# Altium integrated library NSC DAC.IntLib: 136 symbols (part 2 of 4)
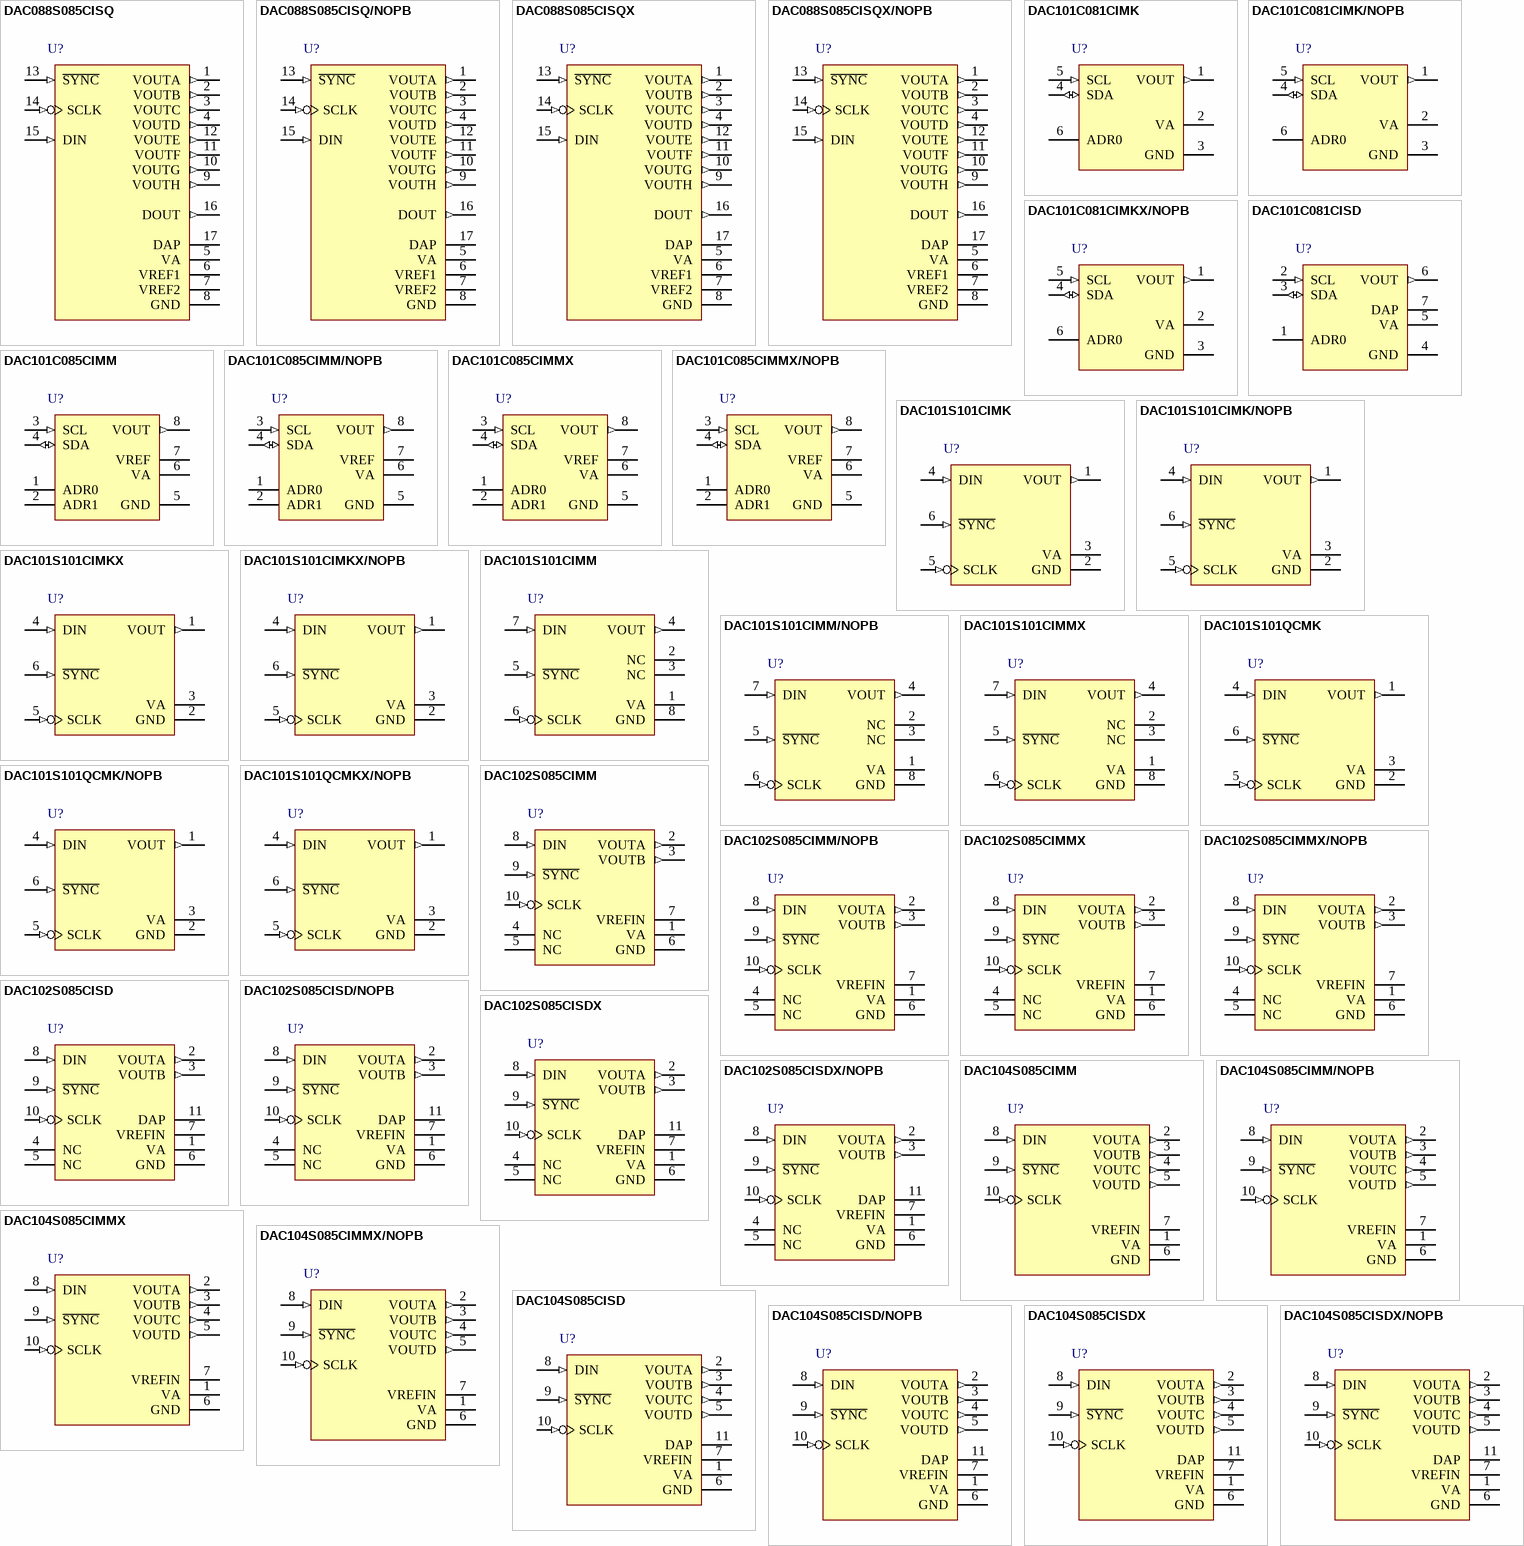
[diagram p4: symbols DAC088S085CISQ to DAC104S085CISDX/NOPB]

## DAC088S085CISQ
designator U?
8-Bit Micro Power OCTAL Digital-to-Analog Converter with Rail-to-Rail Outputs, 17-pin LLP; PartNumber: DAC088S085CISQ; Manufacturer: National Semiconductor; PackageTopMarking: NS*UZXYTT*088S085; PowerWise: Y; CompType: D/A Converter; Published: 4-Dec-2008; DatasheetVersion: Sep-2007; PackageVersion: revA, Oct-2003; PackageReference: SQA16A; Publisher: Altium Limited; PackageDescription: LLP, Plastic, Quad, 4 x 4 x 0.8mm Body, 16 Lead, 0.5mm Pitch, No Pullback; RoHS: N; PinCount: 17; ComponentLink1Description: DAC088S085 Datasheet; ComponentLink1URL: http://www.national.com/ds/DA/DAC088S085.pdf; ComponentLink2Description: DAC088S085 Web Page; ComponentLink2URL: http://www.national.com/pf/DA/DAC088S085.html; ComponentLink3Description: SQA16A Package Page; ComponentLink3URL: http://www.national.com/packaging/folders/sqa16a.html
footprint SQA16A (QFN, 16-Leads, Body 4x4mm, Pitch 0.5mm, NSC Recommended)
pins: 1 VOUTA (out), 2 VOUTB (out), 3 VOUTC (out), 4 VOUTD (out), 5 VA (power), 6 VREF1 (power), 7 VREF2 (power), 8 GND (power), 9 VOUTH (out), 10 VOUTG (out), 11 VOUTF (out), 12 VOUTE (out), 13 ~{SYNC} (in), 14 SCLK (in), 15 DIN (in), 16 DOUT (out), 17 DAP (power)

## DAC088S085CISQ/NOPB
designator U?
8-Bit Micro Power OCTAL Digital-to-Analog Converter with Rail-to-Rail Outputs, 16-pin LLP, Pb-Free; PartNumber: DAC088S085CISQ/NOPB; Manufacturer: National Semiconductor; PackageTopMarking: NS*UZXYTT*088S085; PowerWise: Y; CompType: D/A Converter; Published: 1-Mar-2010; DatasheetVersion: Sep-2007; PackageVersion: revA, Oct-2003; PackageReference: SQA16A; Publisher: Altium Limited; PackageDescription: LLP, Plastic, Quad, 4 x 4 x 0.8mm Body, 16 Lead, 0.5mm Pitch, No Pullback; Supplier 1: Digi-Key; Supplier Part Number 1: DAC088S085CISQTR-ND; Supplier 2: Digi-Key; Supplier Part Number 2: DAC088S085CISQCT-ND; Supplier 3: Digi-Key; Supplier Part Number 3: DAC088S085CISQDKR-ND; RoHS: Y; PinCount: 16; ComponentLink1Description: DAC088S085 Datasheet; ComponentLink1URL: http://www.national.com/ds/DA/DAC088S085.pdf; ComponentLink2Description: DAC088S085 Web Page; ComponentLink2URL: http://www.national.com/pf/DA/DAC088S085.html; ComponentLink3Description: SQA16A Package Page; ComponentLink3URL: http://www.national.com/packaging/folders/sqa16a.html
footprint SQA16A (QFN, 16-Leads, Body 4x4mm, Pitch 0.5mm, NSC Recommended)
pins: 1 VOUTA (out), 2 VOUTB (out), 3 VOUTC (out), 4 VOUTD (out), 5 VA (power), 6 VREF1 (power), 7 VREF2 (power), 8 GND (power), 9 VOUTH (out), 10 VOUTG (out), 11 VOUTF (out), 12 VOUTE (out), 13 ~{SYNC} (in), 14 SCLK (in), 15 DIN (in), 16 DOUT (out), 17 DAP (power)

## DAC088S085CISQX
designator U?
8-Bit Micro Power OCTAL Digital-to-Analog Converter with Rail-to-Rail Outputs, 16-pin LLP; PartNumber: DAC088S085CISQX; Manufacturer: National Semiconductor; PackageTopMarking: NS*UZXYTT*088S085; PowerWise: Y; CompType: D/A Converter; Published: 1-Mar-2010; DatasheetVersion: Sep-2007; PackageVersion: revA, Oct-2003; PackageReference: SQA16A; Publisher: Altium Limited; PackageDescription: LLP, Plastic, Quad, 4 x 4 x 0.8mm Body, 16 Lead, 0.5mm Pitch, No Pullback; RoHS: N; PinCount: 16; ComponentLink1Description: DAC088S085 Datasheet; ComponentLink1URL: http://www.national.com/ds/DA/DAC088S085.pdf; ComponentLink2Description: DAC088S085 Web Page; ComponentLink2URL: http://www.national.com/pf/DA/DAC088S085.html; ComponentLink3Description: SQA16A Package Page; ComponentLink3URL: http://www.national.com/packaging/folders/sqa16a.html
footprint SQA16A (QFN, 16-Leads, Body 4x4mm, Pitch 0.5mm, NSC Recommended)
pins: 1 VOUTA (out), 2 VOUTB (out), 3 VOUTC (out), 4 VOUTD (out), 5 VA (power), 6 VREF1 (power), 7 VREF2 (power), 8 GND (power), 9 VOUTH (out), 10 VOUTG (out), 11 VOUTF (out), 12 VOUTE (out), 13 ~{SYNC} (in), 14 SCLK (in), 15 DIN (in), 16 DOUT (out), 17 DAP (power)

## DAC088S085CISQX/NOPB
designator U?
8-Bit Micro Power OCTAL Digital-to-Analog Converter with Rail-to-Rail Outputs, 16-pin LLP, Pb-Free; PartNumber: DAC088S085CISQX/NOPB; Manufacturer: National Semiconductor; PackageTopMarking: NS*UZXYTT*088S085; PowerWise: Y; CompType: D/A Converter; Published: 1-Mar-2010; DatasheetVersion: Sep-2007; PackageVersion: revA, Oct-2003; PackageReference: SQA16A; Publisher: Altium Limited; PackageDescription: LLP, Plastic, Quad, 4 x 4 x 0.8mm Body, 16 Lead, 0.5mm Pitch, No Pullback; Supplier 1: Digi-Key; Supplier Part Number 1: DAC088S085CISQX-ND; RoHS: Y; PinCount: 16; ComponentLink1Description: DAC088S085 Datasheet; ComponentLink1URL: http://www.national.com/ds/DA/DAC088S085.pdf; ComponentLink2Description: DAC088S085 Web Page; ComponentLink2URL: http://www.national.com/pf/DA/DAC088S085.html; ComponentLink3Description: SQA16A Package Page; ComponentLink3URL: http://www.national.com/packaging/folders/sqa16a.html
footprint SQA16A (QFN, 16-Leads, Body 4x4mm, Pitch 0.5mm, NSC Recommended)
pins: 1 VOUTA (out), 2 VOUTB (out), 3 VOUTC (out), 4 VOUTD (out), 5 VA (power), 6 VREF1 (power), 7 VREF2 (power), 8 GND (power), 9 VOUTH (out), 10 VOUTG (out), 11 VOUTF (out), 12 VOUTE (out), 13 ~{SYNC} (in), 14 SCLK (in), 15 DIN (in), 16 DOUT (out), 17 DAP (power)

## DAC101C081CIMK
designator U?
10-Bit Micro Power Digital-to-Analog Converter with an I2C-Compatible Interface, 6-pin Tiny SOT23; PartNumber: DAC101C081CIMK; Manufacturer: National Semiconductor; PackageTopMarking: X85C*XTT; PowerWise: N; CompType: D/A Converter; Published: 4-Dec-2008; DatasheetVersion: Mar-2008; PackageVersion: revE, Nov-2008; PackageReference: MK06A; Publisher: Altium Limited; PackageDescription: Molded TSOT, 2.97 x 1.65 x 0.87mm Body, 6 Lead, 0.95mm Pitch; RoHS: Y; PinCount: 6; Code_JEDEC: MO-193-AA; Code_IPC: SOT26A-6; ComponentLink1Description: DAC101C081 Datasheet; ComponentLink1URL: http://www.national.com/ds/DA/DAC101C081.pdf; ComponentLink2Description: DAC101C081 Web Page; ComponentLink2URL: http://www.national.com/pf/DA/DAC101C081.html; ComponentLink3Description: MK06A Package Page; ComponentLink3URL: http://www.national.com/packaging/folders/mk06a.html
footprint MK06A_N (SOT23, 6-Leads, Body 3.0x1.7mm, Pitch 0.95mm, Lead Span 2.9mm, IPC Medium Density)
footprint MK06A_L (SOT23, 6-Leads, Body 3.0x1.7mm, Pitch 0.95mm, Lead Span 2.9mm, IPC High Density)
footprint MK06A_M (SOT23, 6-Leads, Body 3.0x1.7mm, Pitch 0.95mm, Lead Span 2.9mm, IPC Low Density)
pins: 1 VOUT (out), 2 VA (power), 3 GND (power), 4 SDA (io), 5 SCL (in), 6 ADR0 (hiz)

## DAC101C081CIMK/NOPB
designator U?
10-Bit Micro Power Digital-to-Analog Converter with an I2C-Compatible Interface, 6-pin Tiny SOT23, Pb-Free; PartNumber: DAC101C081CIMK/NOPB; Manufacturer: National Semiconductor; PackageTopMarking: X85C*XTT; PowerWise: N; CompType: D/A Converter; Published: 1-Mar-2010; DatasheetVersion: Mar-2008; PackageVersion: revE, Nov-2008; PackageReference: MK06A; Publisher: Altium Limited; PackageDescription: Molded TSOT, 2.97 x 1.65 x 0.87mm Body, 6 Lead, 0.95mm Pitch; Supplier 1: Digi-Key; Supplier Part Number 1: DAC101C081CIMKTR-ND; Supplier 2: Digi-Key; Supplier Part Number 2: DAC101C081CIMKCT-ND; Supplier 3: Digi-Key; Supplier Part Number 3: DAC101C081CIMKDKR-ND; Supplier 4: Farnell; Supplier Part Number 4: 1685398; RoHS: Y; PinCount: 6; Code_JEDEC: MO-193-AA; Code_IPC: SOT26A-6; ComponentLink1Description: DAC101C081 Datasheet; ComponentLink1URL: http://www.national.com/ds/DA/DAC101C081.pdf; ComponentLink2Description: DAC101C081 Web Page; ComponentLink2URL: http://www.national.com/pf/DA/DAC101C081.html; ComponentLink3Description: MK06A Package Page; ComponentLink3URL: http://www.national.com/packaging/folders/mk06a.html
footprint MK06A_N (SOT23, 6-Leads, Body 3.0x1.7mm, Pitch 0.95mm, Lead Span 2.9mm, IPC Medium Density)
footprint MK06A_L (SOT23, 6-Leads, Body 3.0x1.7mm, Pitch 0.95mm, Lead Span 2.9mm, IPC High Density)
footprint MK06A_M (SOT23, 6-Leads, Body 3.0x1.7mm, Pitch 0.95mm, Lead Span 2.9mm, IPC Low Density)
pins: 1 VOUT (out), 2 VA (power), 3 GND (power), 4 SDA (io), 5 SCL (in), 6 ADR0 (hiz)

## DAC101C081CIMKX/NOPB
designator U?
10-Bit Micro Power Digital-to-Analog Converter with an I2C-Compatible Interface, 6-pin Tiny SOT23, Pb-Free; PartNumber: DAC101C081CIMKX/NOPB; Manufacturer: National Semiconductor; PackageTopMarking: X85C*XTT; PowerWise: N; CompType: D/A Converter; Published: 1-Mar-2010; DatasheetVersion: Mar-2008; PackageVersion: revE, Nov-2008; PackageReference: MK06A; Publisher: Altium Limited; PackageDescription: Molded TSOT, 2.97 x 1.65 x 0.87mm Body, 6 Lead, 0.95mm Pitch; Supplier 1: Digi-Key; Supplier Part Number 1: DAC101C081CIMKX-ND; RoHS: Y; PinCount: 6; Code_JEDEC: MO-193-AA; Code_IPC: SOT26A-6; ComponentLink1Description: DAC101C081 Datasheet; ComponentLink1URL: http://www.national.com/ds/DA/DAC101C081.pdf; ComponentLink2Description: DAC101C081 Web Page; ComponentLink2URL: http://www.national.com/pf/DA/DAC101C081.html; ComponentLink3Description: MK06A Package Page; ComponentLink3URL: http://www.national.com/packaging/folders/mk06a.html
footprint MK06A_N (SOT23, 6-Leads, Body 3.0x1.7mm, Pitch 0.95mm, Lead Span 2.9mm, IPC Medium Density)
footprint MK06A_L (SOT23, 6-Leads, Body 3.0x1.7mm, Pitch 0.95mm, Lead Span 2.9mm, IPC High Density)
footprint MK06A_M (SOT23, 6-Leads, Body 3.0x1.7mm, Pitch 0.95mm, Lead Span 2.9mm, IPC Low Density)
pins: 1 VOUT (out), 2 VA (power), 3 GND (power), 4 SDA (io), 5 SCL (in), 6 ADR0 (hiz)

## DAC101C081CISD
designator U?
10-Bit Micro Power Digital-to-Analog Converter with an I2C-Compatible Interface, 7-pin LLP; PartNumber: DAC101C081CISD; Manufacturer: National Semiconductor; PackageTopMarking: XTT*X88; PowerWise: N; CompType: D/A Converter; Published: 4-Dec-2008; DatasheetVersion: Mar-2008; PackageVersion: revA, Nov-2003; PackageReference: SDB06A; Publisher: Altium Limited; PackageDescription: LLP, Plastic, Dual, 2.2 x 2.5 x 0.8mm Body, 6 Lead, 0.65mm Pitch, No Pullback; RoHS: N; PinCount: 7; ComponentLink1Description: DAC101C081 Datasheet; ComponentLink1URL: http://www.national.com/ds/DA/DAC101C081.pdf; ComponentLink2Description: DAC101C081 Web Page; ComponentLink2URL: http://www.national.com/pf/DA/DAC101C081.html; ComponentLink3Description: SDB06A Package Page; ComponentLink3URL: http://www.national.com/packaging/folders/sdb06a.html
footprint SDB06A (SON, 6-Leads, Body 2.2x2.5mm, Pitch 0.65mm, NSC Recommended (SC-70 Land))
pins: 1 ADR0 (hiz), 2 SCL (in), 3 SDA (io), 4 GND (power), 5 VA (power), 6 VOUT (out), 7 DAP (power)

## DAC101C085CIMM
designator U?
10-Bit Micro Power Digital-to-Analog Converter with an I2C-Compatible Interface and External Reference, 8-pin Mini SOIC; PartNumber: DAC101C085CIMM; Manufacturer: National Semiconductor; PackageTopMarking: ZXTT*X91C; PowerWise: N; CompType: D/A Converter; Published: 4-Dec-2008; DatasheetVersion: Mar-2008; PackageVersion: revF, Apr-2008; PackageReference: MUA08A; Publisher: Altium Limited; PackageDescription: MINI SOIC, .118 x .118 x .034in, 8 Lead, .0256in Pitch; RoHS: N; PinCount: 8; Code_JEDEC: MO-187-AA; ComponentLink1Description: DAC101C085 Datasheet; ComponentLink1URL: http://www.national.com/ds/DA/DAC101C085.pdf; ComponentLink2Description: DAC101C085 Web Page; ComponentLink2URL: http://www.national.com/pf/DA/DAC101C085.html; ComponentLink3Description: MUA08A Package Page; ComponentLink3URL: http://www.national.com/packaging/folders/mua08a.html
footprint MUA08A_N (TSOP, 8-Leads, Body 3x3mm, Pitch 0.65mm, IPC Medium Density)
footprint MUA08A_L (TSOP, 8-Leads, Body 3x3mm, Pitch 0.65mm, IPC High Density)
footprint MUA08A_M (TSOP, 8-Leads, Body 3x3mm, Pitch 0.65mm, IPC Low Density)
pins: 1 ADR0 (hiz), 2 ADR1 (hiz), 3 SCL (in), 4 SDA (io), 5 GND (power), 6 VA (power), 7 VREF (power), 8 VOUT (out)

## DAC101C085CIMM/NOPB
designator U?
10-Bit Micro Power Digital-to-Analog Converter with an I2C-Compatible Interface and External Reference, 8 pin MINI SOIC; PartNumber: DAC101C085CIMM/NOPB; Manufacturer: National Semiconductor; PackageTopMarking: ZXTT*X91C; PowerWise: N; CompType: D/A Converter; Published: 16-Nov-2010; DatasheetVersion: Mar-2008; PackageVersion: revF, Apr-2008; PackageReference: MUA08A; Publisher: Altium Limited; PackageDescription: MINI SOIC, .118 x .118 x .034in, 8 Lead, .0256in Pitch; Supplier 1: Digi-Key; Supplier Part Number 1: DAC101C085CIMMTR-ND; Supplier 2: Digi-Key; Supplier Part Number 2: DAC101C085CIMMCT-ND; Supplier 3: Digi-Key; Supplier Part Number 3: DAC101C085CIMMDKR-ND; RoHS: Y; PinCount: 8; Code_JEDEC: MO-187-AA; ComponentLink1Description: DAC101C085 Datasheet; ComponentLink1URL: http://www.national.com/ds/DA/DAC101C085.pdf; ComponentLink2Description: DAC101C085 Web Page; ComponentLink2URL: http://www.national.com/pf/DA/DAC101C085.html; ComponentLink3Description: MUA08A Package Page; ComponentLink3URL: http://www.national.com/packaging/folders/mua08a.html
footprint MUA08A_N (TSOP, 8-Leads, Body 3x3mm, Pitch 0.65mm, IPC Medium Density)
footprint MUA08A_L (TSOP, 8-Leads, Body 3x3mm, Pitch 0.65mm, IPC High Density)
footprint MUA08A_M (TSOP, 8-Leads, Body 3x3mm, Pitch 0.65mm, IPC Low Density)
pins: 1 ADR0 (hiz), 2 ADR1 (hiz), 3 SCL (in), 4 SDA (io), 5 GND (power), 6 VA (power), 7 VREF (power), 8 VOUT (out)

## DAC101C085CIMMX
designator U?
10-Bit Micro Power Digital-to-Analog Converter with an I2C-Compatible Interface and External Reference, 8-pin Mini SOIC; PartNumber: DAC101C085CIMMX; Manufacturer: National Semiconductor; PackageTopMarking: ZXTT*X91C; PowerWise: N; CompType: D/A Converter; Published: 1-Mar-2010; DatasheetVersion: Mar-2008; PackageVersion: revF, Apr-2008; PackageReference: MUA08A; Publisher: Altium Limited; PackageDescription: MINI SOIC, .118 x .118 x .034in, 8 Lead, .0256in Pitch; RoHS: N; PinCount: 8; Code_JEDEC: MO-187-AA; ComponentLink1Description: DAC101C085 Datasheet; ComponentLink1URL: http://www.national.com/ds/DA/DAC101C085.pdf; ComponentLink2Description: DAC101C085 Web Page; ComponentLink2URL: http://www.national.com/pf/DA/DAC101C085.html; ComponentLink3Description: MUA08A Package Page; ComponentLink3URL: http://www.national.com/packaging/folders/mua08a.html
footprint MUA08A_N (TSOP, 8-Leads, Body 3x3mm, Pitch 0.65mm, IPC Medium Density)
footprint MUA08A_L (TSOP, 8-Leads, Body 3x3mm, Pitch 0.65mm, IPC High Density)
footprint MUA08A_M (TSOP, 8-Leads, Body 3x3mm, Pitch 0.65mm, IPC Low Density)
pins: 1 ADR0 (hiz), 2 ADR1 (hiz), 3 SCL (in), 4 SDA (io), 5 GND (power), 6 VA (power), 7 VREF (power), 8 VOUT (out)

## DAC101C085CIMMX/NOPB
designator U?
10-Bit Micro Power Digital-to-Analog Converter with an I2C-Compatible Interface and External Reference, 8-pin Mini SOIC, Pb-Free; PartNumber: DAC101C085CIMMX/NOPB; Manufacturer: National Semiconductor; PackageTopMarking: ZXTT*X91C; PowerWise: N; CompType: D/A Converter; Published: 1-Mar-2010; DatasheetVersion: Mar-2008; PackageVersion: revF, Apr-2008; PackageReference: MUA08A; Publisher: Altium Limited; PackageDescription: MINI SOIC, .118 x .118 x .034in, 8 Lead, .0256in Pitch; Supplier 1: Digi-Key; Supplier Part Number 1: DAC101C085CIMMX-ND; RoHS: Y; PinCount: 8; Code_JEDEC: MO-187-AA; ComponentLink1Description: DAC101C085 Datasheet; ComponentLink1URL: http://www.national.com/ds/DA/DAC101C085.pdf; ComponentLink2Description: DAC101C085 Web Page; ComponentLink2URL: http://www.national.com/pf/DA/DAC101C085.html; ComponentLink3Description: MUA08A Package Page; ComponentLink3URL: http://www.national.com/packaging/folders/mua08a.html
footprint MUA08A_N (TSOP, 8-Leads, Body 3x3mm, Pitch 0.65mm, IPC Medium Density)
footprint MUA08A_L (TSOP, 8-Leads, Body 3x3mm, Pitch 0.65mm, IPC High Density)
footprint MUA08A_M (TSOP, 8-Leads, Body 3x3mm, Pitch 0.65mm, IPC Low Density)
pins: 1 ADR0 (hiz), 2 ADR1 (hiz), 3 SCL (in), 4 SDA (io), 5 GND (power), 6 VA (power), 7 VREF (power), 8 VOUT (out)

## DAC101S101CIMK
designator U?
10-Bit Micro Power Digital-to-Analog Converter with Rail-to-Rail Output, 6-pin Tiny SOT23; PartNumber: DAC101S101CIMK; Manufacturer: National Semiconductor; PackageTopMarking: X63C*XTT; PowerWise: Y; CompType: D/A Converter; Published: 4-Dec-2008; LatestRevisionDate: 23-Feb-2010; LatestRevisionNote: Datasheet updated to version Oct-2009; DatasheetVersion: Oct-2009; PackageVersion: revE, Nov-2008; PackageReference: MK06A; Publisher: Altium Limited; PackageDescription: Molded TSOT, 2.97 x 1.65 x 0.87mm Body, 6 Lead, 0.95mm Pitch; Supplier 1: Farnell; Supplier Part Number 1: 1101196; RoHS: N; PinCount: 6; Code_JEDEC: MO-193-AA; Code_IPC: SOT26A-6; ComponentLink1Description: DAC101S101 Datasheet; ComponentLink1URL: http://www.national.com/ds/DA/DAC101S101.pdf; ComponentLink2Description: DAC101S101 Web Page; ComponentLink2URL: http://www.national.com/pf/DA/DAC101S101.html; ComponentLink3Description: MK06A Package Page; ComponentLink3URL: http://www.national.com/packaging/folders/mk06a.html
footprint MK06A_N (SOT23, 6-Leads, Body 3.0x1.7mm, Pitch 0.95mm, Lead Span 2.9mm, IPC Medium Density)
footprint MK06A_L (SOT23, 6-Leads, Body 3.0x1.7mm, Pitch 0.95mm, Lead Span 2.9mm, IPC High Density)
footprint MK06A_M (SOT23, 6-Leads, Body 3.0x1.7mm, Pitch 0.95mm, Lead Span 2.9mm, IPC Low Density)
pins: 1 VOUT (out), 2 GND (power), 3 VA (power), 4 DIN (in), 5 SCLK (in), 6 ~{SYNC} (in)

## DAC101S101CIMK/NOPB
designator U?
10-Bit Micro Power, RRO Digital-to-Analog Converter, 6-pin Tiny SOT23, Pb-Free; PartNumber: DAC101S101CIMK/NOPB; Manufacturer: National Semiconductor; PackageTopMarking: X63C*XTT; PowerWise: Y; CompType: D/A Converter; Published: 1-Mar-2010; LatestRevisionDate: 23-Feb-2010; LatestRevisionNote: Datasheet updated to version Oct-2009; DatasheetVersion: Oct-2009; PackageVersion: revE, Nov-2008; PackageReference: MK06A; Publisher: Altium Limited; PackageDescription: Molded TSOT, 2.97 x 1.65 x 0.87mm Body, 6 Lead, 0.95mm Pitch; Supplier 1: Digi-Key; Supplier Part Number 1: DAC101S101CIMKTR-ND; Supplier 2: Digi-Key; Supplier Part Number 2: DAC101S101CIMKCT-ND; Supplier 3: Digi-Key; Supplier Part Number 3: DAC101S101CIMKDKR-ND; Supplier 4: Farnell; Supplier Part Number 4: 1559747; RoHS: Y; PinCount: 6; Code_JEDEC: MO-193-AA; Code_IPC: SOT26A-6; ComponentLink1Description: DAC101S101 Datasheet; ComponentLink1URL: http://www.national.com/ds/DA/DAC101S101.pdf; ComponentLink2Description: DAC101S101 Web Page; ComponentLink2URL: http://www.national.com/pf/DA/DAC101S101.html; ComponentLink3Description: MK06A Package Page; ComponentLink3URL: http://www.national.com/packaging/folders/mk06a.html
footprint MK06A_N (SOT23, 6-Leads, Body 3.0x1.7mm, Pitch 0.95mm, Lead Span 2.9mm, IPC Medium Density)
footprint MK06A_L (SOT23, 6-Leads, Body 3.0x1.7mm, Pitch 0.95mm, Lead Span 2.9mm, IPC High Density)
footprint MK06A_M (SOT23, 6-Leads, Body 3.0x1.7mm, Pitch 0.95mm, Lead Span 2.9mm, IPC Low Density)
pins: 1 VOUT (out), 2 GND (power), 3 VA (power), 4 DIN (in), 5 SCLK (in), 6 ~{SYNC} (in)

## DAC101S101CIMKX
designator U?
10-Bit Micro Power, RRO Digital-to-Analog Converter, 6-pin Tiny SOT23; PartNumber: DAC101S101CIMKX; Manufacturer: National Semiconductor; PackageTopMarking: X63C*XTT; PowerWise: Y; CompType: D/A Converter; Published: 1-Mar-2010; LatestRevisionDate: 23-Feb-2010; LatestRevisionNote: Datasheet updated to version Oct-2009; DatasheetVersion: Oct-2009; PackageVersion: revE, Nov-2008; PackageReference: MK06A; Publisher: Altium Limited; PackageDescription: Molded TSOT, 2.97 x 1.65 x 0.87mm Body, 6 Lead, 0.95mm Pitch; RoHS: N; PinCount: 6; Code_JEDEC: MO-193-AA; Code_IPC: SOT26A-6; ComponentLink1Description: DAC101S101 Datasheet; ComponentLink1URL: http://www.national.com/ds/DA/DAC101S101.pdf; ComponentLink2Description: DAC101S101 Web Page; ComponentLink2URL: http://www.national.com/pf/DA/DAC101S101.html; ComponentLink3Description: MK06A Package Page; ComponentLink3URL: http://www.national.com/packaging/folders/mk06a.html
footprint MK06A_N (SOT23, 6-Leads, Body 3.0x1.7mm, Pitch 0.95mm, Lead Span 2.9mm, IPC Medium Density)
footprint MK06A_L (SOT23, 6-Leads, Body 3.0x1.7mm, Pitch 0.95mm, Lead Span 2.9mm, IPC High Density)
footprint MK06A_M (SOT23, 6-Leads, Body 3.0x1.7mm, Pitch 0.95mm, Lead Span 2.9mm, IPC Low Density)
pins: 1 VOUT (out), 2 GND (power), 3 VA (power), 4 DIN (in), 5 SCLK (in), 6 ~{SYNC} (in)

## DAC101S101CIMKX/NOPB
designator U?
10-Bit Micro Power, RRO Digital-to-Analog Converter, 6-pin Tiny SOT23, Pb-Free; PartNumber: DAC101S101CIMKX/NOPB; Manufacturer: National Semiconductor; PackageTopMarking: X63C*XTT; PowerWise: Y; CompType: D/A Converter; Published: 1-Mar-2010; LatestRevisionDate: 23-Feb-2010; LatestRevisionNote: Datasheet updated to version Oct-2009; DatasheetVersion: Oct-2009; PackageVersion: revE, Nov-2008; PackageReference: MK06A; Publisher: Altium Limited; PackageDescription: Molded TSOT, 2.97 x 1.65 x 0.87mm Body, 6 Lead, 0.95mm Pitch; Supplier 1: Digi-Key; Supplier Part Number 1: DAC101S101CIMKX-ND; RoHS: Y; PinCount: 6; Code_JEDEC: MO-193-AA; Code_IPC: SOT26A-6; ComponentLink1Description: DAC101S101 Datasheet; ComponentLink1URL: http://www.national.com/ds/DA/DAC101S101.pdf; ComponentLink2Description: DAC101S101 Web Page; ComponentLink2URL: http://www.national.com/pf/DA/DAC101S101.html; ComponentLink3Description: MK06A Package Page; ComponentLink3URL: http://www.national.com/packaging/folders/mk06a.html
footprint MK06A_N (SOT23, 6-Leads, Body 3.0x1.7mm, Pitch 0.95mm, Lead Span 2.9mm, IPC Medium Density)
footprint MK06A_L (SOT23, 6-Leads, Body 3.0x1.7mm, Pitch 0.95mm, Lead Span 2.9mm, IPC High Density)
footprint MK06A_M (SOT23, 6-Leads, Body 3.0x1.7mm, Pitch 0.95mm, Lead Span 2.9mm, IPC Low Density)
pins: 1 VOUT (out), 2 GND (power), 3 VA (power), 4 DIN (in), 5 SCLK (in), 6 ~{SYNC} (in)

## DAC101S101CIMM
designator U?
10-Bit Micro Power Digital-to-Analog Converter with Rail-to-Rail Output, 8-pin Mini SOIC; PartNumber: DAC101S101CIMM; Manufacturer: National Semiconductor; PackageTopMarking: ZXTT*X62C; PowerWise: Y; CompType: D/A Converter; Published: 4-Dec-2008; LatestRevisionDate: 23-Feb-2010; LatestRevisionNote: Datasheet updated to version Oct-2009; DatasheetVersion: Oct-2009; PackageVersion: revF, Apr-2008; PackageReference: MUA08A; Publisher: Altium Limited; PackageDescription: MINI SOIC, .118 x .118 x .034in, 8 Lead, .0256in Pitch; Supplier 1: Farnell; Supplier Part Number 1: 1101197; RoHS: N; PinCount: 8; Code_JEDEC: MO-187-AA; ComponentLink1Description: DAC101S101 Datasheet; ComponentLink1URL: http://www.national.com/ds/DA/DAC101S101.pdf; ComponentLink2Description: DAC101S101 Web Page; ComponentLink2URL: http://www.national.com/pf/DA/DAC101S101.html; ComponentLink3Description: MUA08A Package Page; ComponentLink3URL: http://www.national.com/packaging/folders/mua08a.html
footprint MUA08A_N (TSOP, 8-Leads, Body 3x3mm, Pitch 0.65mm, IPC Medium Density)
footprint MUA08A_L (TSOP, 8-Leads, Body 3x3mm, Pitch 0.65mm, IPC High Density)
footprint MUA08A_M (TSOP, 8-Leads, Body 3x3mm, Pitch 0.65mm, IPC Low Density)
pins: 1 VA (power), 2 NC, 3 NC, 4 VOUT (out), 5 ~{SYNC} (in), 6 SCLK (in), 7 DIN (in), 8 GND (power)

## DAC101S101CIMM/NOPB
designator U?
10-Bit Micro Power, RRO Digital-to-Analog Converter, 8-pin Mini SOIC, Pb-Free; PartNumber: DAC101S101CIMM/NOPB; Manufacturer: National Semiconductor; PackageTopMarking: ZXTT*X62C; PowerWise: Y; CompType: D/A Converter; Published: 1-Mar-2010; LatestRevisionDate: 23-Feb-2010; LatestRevisionNote: Datasheet updated to version Oct-2009; DatasheetVersion: Oct-2009; PackageVersion: revF, Apr-2008; PackageReference: MUA08A; Publisher: Altium Limited; PackageDescription: MINI SOIC, .118 x .118 x .034in, 8 Lead, .0256in Pitch; Supplier 1: Digi-Key; Supplier Part Number 1: DAC101S101CIMMTR-ND; Supplier 2: Digi-Key; Supplier Part Number 2: DAC101S101CIMMCT-ND; Supplier 3: Digi-Key; Supplier Part Number 3: DAC101S101CIMMDKR-ND; RoHS: Y; PinCount: 8; Code_JEDEC: MO-187-AA; ComponentLink1Description: DAC101S101 Datasheet; ComponentLink1URL: http://www.national.com/ds/DA/DAC101S101.pdf; ComponentLink2Description: DAC101S101 Web Page; ComponentLink2URL: http://www.national.com/pf/DA/DAC101S101.html; ComponentLink3Description: MUA08A Package Page; ComponentLink3URL: http://www.national.com/packaging/folders/mua08a.html
footprint MUA08A_N (TSOP, 8-Leads, Body 3x3mm, Pitch 0.65mm, IPC Medium Density)
footprint MUA08A_L (TSOP, 8-Leads, Body 3x3mm, Pitch 0.65mm, IPC High Density)
footprint MUA08A_M (TSOP, 8-Leads, Body 3x3mm, Pitch 0.65mm, IPC Low Density)
pins: 1 VA (power), 2 NC, 3 NC, 4 VOUT (out), 5 ~{SYNC} (in), 6 SCLK (in), 7 DIN (in), 8 GND (power)

## DAC101S101CIMMX
designator U?
10-Bit Micro Power, RRO Digital-to-Analog Converter, 8-pin Mini SOIC; PartNumber: DAC101S101CIMMX; Manufacturer: National Semiconductor; PackageTopMarking: ZXTT*X62C; PowerWise: Y; CompType: D/A Converter; Published: 1-Mar-2010; LatestRevisionDate: 23-Feb-2010; LatestRevisionNote: Datasheet updated to version Oct-2009; DatasheetVersion: Oct-2009; PackageVersion: revF, Apr-2008; PackageReference: MUA08A; Publisher: Altium Limited; PackageDescription: MINI SOIC, .118 x .118 x .034in, 8 Lead, .0256in Pitch; RoHS: N; PinCount: 8; Code_JEDEC: MO-187-AA; ComponentLink1Description: DAC101S101 Datasheet; ComponentLink1URL: http://www.national.com/ds/DA/DAC101S101.pdf; ComponentLink2Description: DAC101S101 Web Page; ComponentLink2URL: http://www.national.com/pf/DA/DAC101S101.html; ComponentLink3Description: MUA08A Package Page; ComponentLink3URL: http://www.national.com/packaging/folders/mua08a.html
footprint MUA08A_N (TSOP, 8-Leads, Body 3x3mm, Pitch 0.65mm, IPC Medium Density)
footprint MUA08A_L (TSOP, 8-Leads, Body 3x3mm, Pitch 0.65mm, IPC High Density)
footprint MUA08A_M (TSOP, 8-Leads, Body 3x3mm, Pitch 0.65mm, IPC Low Density)
pins: 1 VA (power), 2 NC, 3 NC, 4 VOUT (out), 5 ~{SYNC} (in), 6 SCLK (in), 7 DIN (in), 8 GND (power)

## DAC101S101QCMK
designator U?
10-Bit Micro Power, RRO Digital-to-Analog Converter, 6-pin Tiny SOT23; PartNumber: DAC101S101QCMK; Manufacturer: National Semiconductor; PackageTopMarking: X63Q*XTT; PowerWise: N; CompType: D/A Converter; Published: 4-Dec-2008; LatestRevisionDate: 23-Feb-2010; LatestRevisionNote: Datasheet updated to version Oct-2009; DatasheetVersion: Oct-2009; PackageVersion: revE, Nov-2008; PackageReference: MK06A; Publisher: Altium Limited; PackageDescription: Molded TSOT, 2.97 x 1.65 x 0.87mm Body, 6 Lead, 0.95mm Pitch; RoHS: N; PinCount: 6; Code_JEDEC: MO-193-AA; Code_IPC: SOT26A-6; ComponentLink1Description: DAC101S101Q Datasheet; ComponentLink1URL: http://www.national.com/ds/DA/DAC101S101.pdf; ComponentLink2Description: DAC101S101Q Web Page; ComponentLink2URL: http://www.national.com/pf/DA/DAC101S101Q.html; ComponentLink3Description: MK06A Package Page; ComponentLink3URL: http://www.national.com/packaging/folders/mk06a.html
footprint MK06A_N (SOT23, 6-Leads, Body 3.0x1.7mm, Pitch 0.95mm, Lead Span 2.9mm, IPC Medium Density)
footprint MK06A_L (SOT23, 6-Leads, Body 3.0x1.7mm, Pitch 0.95mm, Lead Span 2.9mm, IPC High Density)
footprint MK06A_M (SOT23, 6-Leads, Body 3.0x1.7mm, Pitch 0.95mm, Lead Span 2.9mm, IPC Low Density)
pins: 1 VOUT (out), 2 GND (power), 3 VA (power), 4 DIN (in), 5 SCLK (in), 6 ~{SYNC} (in)

## DAC101S101QCMK/NOPB
designator U?
10-Bit Micro Power, RRO Digital-to-Analog Converter, 6-pin Tiny SOT23, Pb-Free; PartNumber: DAC101S101QCMK/NOPB; Manufacturer: National Semiconductor; PackageTopMarking: X63Q*XTT; PowerWise: Y; CompType: D/A Converter; Published: 1-Mar-2010; LatestRevisionDate: 23-Feb-2010; LatestRevisionNote: Datasheet updated to version Oct-2009; DatasheetVersion: Oct-2009; PackageVersion: revE, Nov-2008; PackageReference: MK06A; Publisher: Altium Limited; PackageDescription: Molded TSOT, 2.97 x 1.65 x 0.87mm Body, 6 Lead, 0.95mm Pitch; Supplier 1: Digi-Key; Supplier Part Number 1: DAC101S101QCMKTR-ND; Supplier 2: Digi-Key; Supplier Part Number 2: DAC101S101QCMKCT-ND; Supplier 3: Digi-Key; Supplier Part Number 3: DAC101S101QCMKDKR-ND; RoHS: Y; PinCount: 6; Code_JEDEC: MO-193-AA; Code_IPC: SOT26A-6; ComponentLink1Description: DAC101S101 Datasheet; ComponentLink1URL: http://www.national.com/ds/DA/DAC101S101.pdf; ComponentLink2Description: DAC101S101 Web Page; ComponentLink2URL: http://www.national.com/pf/DA/DAC101S101.html; ComponentLink3Description: MK06A Package Page; ComponentLink3URL: http://www.national.com/packaging/folders/mk06a.html
footprint MK06A_N (SOT23, 6-Leads, Body 3.0x1.7mm, Pitch 0.95mm, Lead Span 2.9mm, IPC Medium Density)
footprint MK06A_L (SOT23, 6-Leads, Body 3.0x1.7mm, Pitch 0.95mm, Lead Span 2.9mm, IPC High Density)
footprint MK06A_M (SOT23, 6-Leads, Body 3.0x1.7mm, Pitch 0.95mm, Lead Span 2.9mm, IPC Low Density)
pins: 1 VOUT (out), 2 GND (power), 3 VA (power), 4 DIN (in), 5 SCLK (in), 6 ~{SYNC} (in)

## DAC101S101QCMKX/NOPB
designator U?
10-Bit Micro Power, RRO Digital-to-Analog Converter, 6-pin Tiny SOT23, Pb-Free; PartNumber: DAC101S101QCMKX/NOPB; Manufacturer: National Semiconductor; PackageTopMarking: X63Q*XTT; PowerWise: Y; CompType: D/A Converter; Published: 1-Mar-2010; LatestRevisionDate: 23-Feb-2010; LatestRevisionNote: Datasheet updated to version Oct-2009; DatasheetVersion: Oct-2009; PackageVersion: revE, Nov-2008; PackageReference: MK06A; Publisher: Altium Limited; PackageDescription: Molded TSOT, 2.97 x 1.65 x 0.87mm Body, 6 Lead, 0.95mm Pitch; Supplier 1: Digi-Key; Supplier Part Number 1: DAC101S101QCMKX-ND; RoHS: Y; PinCount: 6; Code_JEDEC: MO-193-AA; Code_IPC: SOT26A-6; ComponentLink1Description: DAC101S101 Datasheet; ComponentLink1URL: http://www.national.com/ds/DA/DAC101S101.pdf; ComponentLink2Description: DAC101S101 Web Page; ComponentLink2URL: http://www.national.com/pf/DA/DAC101S101.html; ComponentLink3Description: MK06A Package Page; ComponentLink3URL: http://www.national.com/packaging/folders/mk06a.html
footprint MK06A_N (SOT23, 6-Leads, Body 3.0x1.7mm, Pitch 0.95mm, Lead Span 2.9mm, IPC Medium Density)
footprint MK06A_L (SOT23, 6-Leads, Body 3.0x1.7mm, Pitch 0.95mm, Lead Span 2.9mm, IPC High Density)
footprint MK06A_M (SOT23, 6-Leads, Body 3.0x1.7mm, Pitch 0.95mm, Lead Span 2.9mm, IPC Low Density)
pins: 1 VOUT (out), 2 GND (power), 3 VA (power), 4 DIN (in), 5 SCLK (in), 6 ~{SYNC} (in)

## DAC102S085CIMM
designator U?
10-Bit Micro Power DUAL Digital-to-Analog Converter with Rail-to-Rail Output, 10-pin MSOP; PartNumber: DAC102S085CIMM; Manufacturer: National Semiconductor; PackageTopMarking: ZXTT*X74C; PowerWise: Y; CompType: D/A Converter; Published: 4-Dec-2008; DatasheetVersion: Nov-2008; PackageVersion: revB, Jul-2003; PackageReference: MUB10A; Publisher: Altium Limited; PackageDescription: Mini-SO, Molded, .118 x .118 x .034in Body, 10 Lead, .0197in Pitch; Supplier 1: Farnell; Supplier Part Number 1: 1312537; RoHS: N; PinCount: 10; Code_JEDEC: MO-187-BA; ComponentLink1Description: DAC102S085 Datasheet; ComponentLink1URL: http://www.national.com/ds/DA/DAC102S085.pdf; ComponentLink2Description: DAC102S085 Web Page; ComponentLink2URL: http://www.national.com/pf/DA/DAC102S085.html; ComponentLink3Description: MUB10A Package Page; ComponentLink3URL: http://www.national.com/packaging/folders/mub10a.html
footprint MUB10A_N (TSSOP, 10-Leads, Body 3x3mm, Pitch 0.5mm, IPC Medium Density)
footprint MUB10A_L (TSSOP, 10-Leads, Body 3x3mm, Pitch 0.5mm, IPC High Density)
footprint MUB10A_M (TSSOP, 10-Leads, Body 3x3mm, Pitch 0.5mm, IPC Low Density)
pins: 1 VA (power), 2 VOUTA (out), 3 VOUTB (out), 4 NC, 5 NC, 6 GND (power), 7 VREFIN (power), 8 DIN (in), 9 ~{SYNC} (in), 10 SCLK (in)

## DAC102S085CIMM/NOPB
designator U?
10-Bit Micro Power DUAL Digital-to-Analog Converter with Rail-to-Rail Output, 10-pin Mini SOIC, Pb-Free; PartNumber: DAC102S085CIMM/NOPB; Manufacturer: National Semiconductor; PackageTopMarking: ZXTT*X74C; PowerWise: Y; CompType: D/A Converter; Published: 1-Mar-2010; DatasheetVersion: Nov-2008; PackageVersion: revB, Jul-2003; PackageReference: MUB10A; Publisher: Altium Limited; PackageDescription: Mini-SO, Molded, .118 x .118 x .034in Body, 10 Lead, .0197in Pitch; Supplier 1: Digi-Key; Supplier Part Number 1: DAC102S085CIMMTR-ND; Supplier 2: Digi-Key; Supplier Part Number 2: DAC102S085CIMMCT-ND; Supplier 3: Digi-Key; Supplier Part Number 3: DAC102S085CIMMDKR-ND; Supplier 4: Farnell; Supplier Part Number 4: 1559241; RoHS: Y; PinCount: 10; Code_JEDEC: MO-187-BA; ComponentLink1Description: DAC102S085 Datasheet; ComponentLink1URL: http://www.national.com/ds/DA/DAC102S085.pdf; ComponentLink2Description: DAC102S085 Web Page; ComponentLink2URL: http://www.national.com/pf/DA/DAC102S085.html; ComponentLink3Description: MUB10A Package Page; ComponentLink3URL: http://www.national.com/packaging/folders/mub10a.html
footprint MUB10A_N (TSSOP, 10-Leads, Body 3x3mm, Pitch 0.5mm, IPC Medium Density)
footprint MUB10A_L (TSSOP, 10-Leads, Body 3x3mm, Pitch 0.5mm, IPC High Density)
footprint MUB10A_M (TSSOP, 10-Leads, Body 3x3mm, Pitch 0.5mm, IPC Low Density)
pins: 1 VA (power), 2 VOUTA (out), 3 VOUTB (out), 4 NC, 5 NC, 6 GND (power), 7 VREFIN (power), 8 DIN (in), 9 ~{SYNC} (in), 10 SCLK (in)

## DAC102S085CIMMX
designator U?
10-Bit Micro Power DUAL Digital-to-Analog Converter with Rail-to-Rail Output, 10-pin Mini SOIC; PartNumber: DAC102S085CIMMX; Manufacturer: National Semiconductor; PackageTopMarking: ZXTT*X74C; PowerWise: Y; CompType: D/A Converter; Published: 1-Mar-2010; DatasheetVersion: Nov-2008; PackageVersion: revB, Jul-2003; PackageReference: MUB10A; Publisher: Altium Limited; PackageDescription: Mini-SO, Molded, .118 x .118 x .034in Body, 10 Lead, .0197in Pitch; RoHS: N; PinCount: 10; Code_JEDEC: MO-187-BA; ComponentLink1Description: DAC102S085 Datasheet; ComponentLink1URL: http://www.national.com/ds/DA/DAC102S085.pdf; ComponentLink2Description: DAC102S085 Web Page; ComponentLink2URL: http://www.national.com/pf/DA/DAC102S085.html; ComponentLink3Description: MUB10A Package Page; ComponentLink3URL: http://www.national.com/packaging/folders/mub10a.html
footprint MUB10A_N (TSSOP, 10-Leads, Body 3x3mm, Pitch 0.5mm, IPC Medium Density)
footprint MUB10A_L (TSSOP, 10-Leads, Body 3x3mm, Pitch 0.5mm, IPC High Density)
footprint MUB10A_M (TSSOP, 10-Leads, Body 3x3mm, Pitch 0.5mm, IPC Low Density)
pins: 1 VA (power), 2 VOUTA (out), 3 VOUTB (out), 4 NC, 5 NC, 6 GND (power), 7 VREFIN (power), 8 DIN (in), 9 ~{SYNC} (in), 10 SCLK (in)

## DAC102S085CIMMX/NOPB
designator U?
10-Bit Micro Power DUAL Digital-to-Analog Converter with Rail-to-Rail Output, 10-pin Mini SOIC, Pb-Free; PartNumber: DAC102S085CIMMX/NOPB; Manufacturer: National Semiconductor; PackageTopMarking: ZXTT*X74C; PowerWise: Y; CompType: D/A Converter; Published: 1-Mar-2010; DatasheetVersion: Nov-2008; PackageVersion: revB, Jul-2003; PackageReference: MUB10A; Publisher: Altium Limited; PackageDescription: Mini-SO, Molded, .118 x .118 x .034in Body, 10 Lead, .0197in Pitch; Supplier 1: Digi-Key; Supplier Part Number 1: DAC102S085CIMMX-ND; RoHS: Y; PinCount: 10; Code_JEDEC: MO-187-BA; ComponentLink1Description: DAC102S085 Datasheet; ComponentLink1URL: http://www.national.com/ds/DA/DAC102S085.pdf; ComponentLink2Description: DAC102S085 Web Page; ComponentLink2URL: http://www.national.com/pf/DA/DAC102S085.html; ComponentLink3Description: MUB10A Package Page; ComponentLink3URL: http://www.national.com/packaging/folders/mub10a.html
footprint MUB10A_N (TSSOP, 10-Leads, Body 3x3mm, Pitch 0.5mm, IPC Medium Density)
footprint MUB10A_L (TSSOP, 10-Leads, Body 3x3mm, Pitch 0.5mm, IPC High Density)
footprint MUB10A_M (TSSOP, 10-Leads, Body 3x3mm, Pitch 0.5mm, IPC Low Density)
pins: 1 VA (power), 2 VOUTA (out), 3 VOUTB (out), 4 NC, 5 NC, 6 GND (power), 7 VREFIN (power), 8 DIN (in), 9 ~{SYNC} (in), 10 SCLK (in)

## DAC102S085CISD
designator U?
10-Bit Micro Power DUAL Digital-to-Analog Converter with Rail-to-Rail Output, 11-pin LLP; PartNumber: DAC102S085CISD; Manufacturer: National Semiconductor; PackageTopMarking: ZXYTT*X75C; PowerWise: Y; CompType: D/A Converter; Published: 4-Dec-2008; DatasheetVersion: Nov-2008; PackageVersion: revA, Oct-2003; PackageReference: SDA10A; Publisher: Altium Limited; PackageDescription: LLP, Plastic, Dual, 3 x 3 x 0.8mm Body, 10 Lead, 0.5mm Pitch, No Pullback; RoHS: N; PinCount: 11; ComponentLink1Description: DAC102S085 Datasheet; ComponentLink1URL: http://www.national.com/ds/DA/DAC102S085.pdf; ComponentLink2Description: DAC102S085 Web Page; ComponentLink2URL: http://www.national.com/pf/DA/DAC102S085.html; ComponentLink3Description: SDA10A Package Page; ComponentLink3URL: http://www.national.com/packaging/folders/sda10a.html
footprint SDA10A (SON, 10-Leads, Body 3x3 mm, Pitch 0.5mm, NSC Recommended)
pins: 1 VA (power), 2 VOUTA (out), 3 VOUTB (out), 4 NC, 5 NC, 6 GND (power), 7 VREFIN (power), 8 DIN (in), 9 ~{SYNC} (in), 10 SCLK (in), 11 DAP (power)

## DAC102S085CISD/NOPB
designator U?
10-Bit Micro Power DUAL Digital-to-Analog Converter with Rail-to-Rail Output, 10-pin LLP, Pb-Free; PartNumber: DAC102S085CISD/NOPB; Manufacturer: National Semiconductor; PackageTopMarking: ZXYTT*X75C; PowerWise: Y; CompType: D/A Converter; Published: 1-Mar-2010; DatasheetVersion: Nov-2008; PackageVersion: revA, Oct-2003; PackageReference: SDA10A; Publisher: Altium Limited; PackageDescription: LLP, Plastic, Dual, 3 x 3 x 0.8mm Body, 10 Lead, 0.5mm Pitch, No Pullback; RoHS: Y; PinCount: 10; ComponentLink1Description: DAC102S085 Datasheet; ComponentLink1URL: http://www.national.com/ds/DA/DAC102S085.pdf; ComponentLink2Description: DAC102S085 Web Page; ComponentLink2URL: http://www.national.com/pf/DA/DAC102S085.html; ComponentLink3Description: SDA10A Package Page; ComponentLink3URL: http://www.national.com/packaging/folders/sda10a.html
footprint SDA10A (SON, 10-Leads, Body 3x3 mm, Pitch 0.5mm, NSC Recommended)
pins: 1 VA (power), 2 VOUTA (out), 3 VOUTB (out), 4 NC, 5 NC, 6 GND (power), 7 VREFIN (power), 8 DIN (in), 9 ~{SYNC} (in), 10 SCLK (in), 11 DAP (power)

## DAC102S085CISDX
designator U?
10-Bit Micro Power DUAL Digital-to-Analog Converter with Rail-to-Rail Output, 10-pin LLP; PartNumber: DAC102S085CISDX; Manufacturer: National Semiconductor; PackageTopMarking: ZXYTT*X75C; PowerWise: Y; CompType: D/A Converter; Published: 1-Mar-2010; DatasheetVersion: Nov-2008; PackageVersion: revA, Oct-2003; PackageReference: SDA10A; Publisher: Altium Limited; PackageDescription: LLP, Plastic, Dual, 3 x 3 x 0.8mm Body, 10 Lead, 0.5mm Pitch, No Pullback; RoHS: N; PinCount: 10; ComponentLink1Description: DAC102S085 Datasheet; ComponentLink1URL: http://www.national.com/ds/DA/DAC102S085.pdf; ComponentLink2Description: DAC102S085 Web Page; ComponentLink2URL: http://www.national.com/pf/DA/DAC102S085.html; ComponentLink3Description: SDA10A Package Page; ComponentLink3URL: http://www.national.com/packaging/folders/sda10a.html
footprint SDA10A (SON, 10-Leads, Body 3x3 mm, Pitch 0.5mm, NSC Recommended)
pins: 1 VA (power), 2 VOUTA (out), 3 VOUTB (out), 4 NC, 5 NC, 6 GND (power), 7 VREFIN (power), 8 DIN (in), 9 ~{SYNC} (in), 10 SCLK (in), 11 DAP (power)

## DAC102S085CISDX/NOPB
designator U?
10-Bit Micro Power DUAL Digital-to-Analog Converter with Rail-to-Rail Output, 10-pin LLP, Pb-Free; PartNumber: DAC102S085CISDX/NOPB; Manufacturer: National Semiconductor; PackageTopMarking: ZXYTT*X75C; PowerWise: Y; CompType: D/A Converter; Published: 1-Mar-2010; DatasheetVersion: Nov-2008; PackageVersion: revA, Oct-2003; PackageReference: SDA10A; Publisher: Altium Limited; PackageDescription: LLP, Plastic, Dual, 3 x 3 x 0.8mm Body, 10 Lead, 0.5mm Pitch, No Pullback; Supplier 1: Digi-Key; Supplier Part Number 1: DAC102S085CISDX-ND; RoHS: Y; PinCount: 10; ComponentLink1Description: DAC102S085 Datasheet; ComponentLink1URL: http://www.national.com/ds/DA/DAC102S085.pdf; ComponentLink2Description: DAC102S085 Web Page; ComponentLink2URL: http://www.national.com/pf/DA/DAC102S085.html; ComponentLink3Description: SDA10A Package Page; ComponentLink3URL: http://www.national.com/packaging/folders/sda10a.html
footprint SDA10A (SON, 10-Leads, Body 3x3 mm, Pitch 0.5mm, NSC Recommended)
pins: 1 VA (power), 2 VOUTA (out), 3 VOUTB (out), 4 NC, 5 NC, 6 GND (power), 7 VREFIN (power), 8 DIN (in), 9 ~{SYNC} (in), 10 SCLK (in), 11 DAP (power)

## DAC104S085CIMM
designator U?
10-Bit Micro Power QUAD Digital-to-Analog Converter with Rail-to-Rail Output, 10-pin MSOP; PartNumber: DAC104S085CIMM; Manufacturer: National Semiconductor; PackageTopMarking: ZXTT*X68C; PowerWise: Y; CompType: D/A Converter; Published: 4-Dec-2008; DatasheetVersion: Nov-2008; PackageVersion: revB, Jul-2003; PackageReference: MUB10A; Publisher: Altium Limited; PackageDescription: Mini-SO, Molded, .118 x .118 x .034in Body, 10 Lead, .0197in Pitch; Supplier 1: Farnell; Supplier Part Number 1: 1312538; RoHS: N; PinCount: 10; Code_JEDEC: MO-187-BA; ComponentLink1Description: DAC104S085 Datasheet; ComponentLink1URL: http://www.national.com/ds/DA/DAC104S085.pdf; ComponentLink2Description: DAC104S085 Web Page; ComponentLink2URL: http://www.national.com/pf/DA/DAC104S085.html; ComponentLink3Description: MUB10A Package Page; ComponentLink3URL: http://www.national.com/packaging/folders/mub10a.html
footprint MUB10A_N (TSSOP, 10-Leads, Body 3x3mm, Pitch 0.5mm, IPC Medium Density)
footprint MUB10A_L (TSSOP, 10-Leads, Body 3x3mm, Pitch 0.5mm, IPC High Density)
footprint MUB10A_M (TSSOP, 10-Leads, Body 3x3mm, Pitch 0.5mm, IPC Low Density)
pins: 1 VA (power), 2 VOUTA (out), 3 VOUTB (out), 4 VOUTC (out), 5 VOUTD (out), 6 GND (power), 7 VREFIN (power), 8 DIN (in), 9 ~{SYNC} (in), 10 SCLK (in)

## DAC104S085CIMM/NOPB
designator U?
10-Bit Micro Power QUAD Digital-to-Analog Converter with Rail-to-Rail Output, 10-pin Mini SOIC, Pb-Free; PartNumber: DAC104S085CIMM/NOPB; Manufacturer: National Semiconductor; PackageTopMarking: ZXTT*X68C; PowerWise: Y; CompType: D/A Converter; Published: 1-Mar-2010; DatasheetVersion: Nov-2008; PackageVersion: revB, Jul-2003; PackageReference: MUB10A; Publisher: Altium Limited; PackageDescription: Mini-SO, Molded, .118 x .118 x .034in Body, 10 Lead, .0197in Pitch; Supplier 1: Digi-Key; Supplier Part Number 1: DAC104S085CIMMTR-ND; Supplier 2: Digi-Key; Supplier Part Number 2: DAC104S085CIMMCT-ND; Supplier 3: Digi-Key; Supplier Part Number 3: DAC104S085CIMMDKR-ND; Supplier 4: Farnell; Supplier Part Number 4: 1559243; RoHS: Y; PinCount: 10; Code_JEDEC: MO-187-BA; ComponentLink1Description: DAC104S085 Datasheet; ComponentLink1URL: http://www.national.com/ds/DA/DAC104S085.pdf; ComponentLink2Description: DAC104S085 Web Page; ComponentLink2URL: http://www.national.com/pf/DA/DAC104S085.html; ComponentLink3Description: MUB10A Package Page; ComponentLink3URL: http://www.national.com/packaging/folders/mub10a.html
footprint MUB10A_N (TSSOP, 10-Leads, Body 3x3mm, Pitch 0.5mm, IPC Medium Density)
footprint MUB10A_L (TSSOP, 10-Leads, Body 3x3mm, Pitch 0.5mm, IPC High Density)
footprint MUB10A_M (TSSOP, 10-Leads, Body 3x3mm, Pitch 0.5mm, IPC Low Density)
pins: 1 VA (power), 2 VOUTA (out), 3 VOUTB (out), 4 VOUTC (out), 5 VOUTD (out), 6 GND (power), 7 VREFIN (power), 8 DIN (in), 9 ~{SYNC} (in), 10 SCLK (in)

## DAC104S085CIMMX
designator U?
10-Bit Micro Power QUAD Digital-to-Analog Converter with Rail-to-Rail Output, 10-pin Mini SOIC; PartNumber: DAC104S085CIMMX; Manufacturer: National Semiconductor; PackageTopMarking: ZXTT*X68C; PowerWise: Y; CompType: D/A Converter; Published: 1-Mar-2010; DatasheetVersion: Nov-2008; PackageVersion: revB, Jul-2003; PackageReference: MUB10A; Publisher: Altium Limited; PackageDescription: Mini-SO, Molded, .118 x .118 x .034in Body, 10 Lead, .0197in Pitch; RoHS: N; PinCount: 10; Code_JEDEC: MO-187-BA; ComponentLink1Description: DAC104S085 Datasheet; ComponentLink1URL: http://www.national.com/ds/DA/DAC104S085.pdf; ComponentLink2Description: DAC104S085 Web Page; ComponentLink2URL: http://www.national.com/pf/DA/DAC104S085.html; ComponentLink3Description: MUB10A Package Page; ComponentLink3URL: http://www.national.com/packaging/folders/mub10a.html
footprint MUB10A_N (TSSOP, 10-Leads, Body 3x3mm, Pitch 0.5mm, IPC Medium Density)
footprint MUB10A_L (TSSOP, 10-Leads, Body 3x3mm, Pitch 0.5mm, IPC High Density)
footprint MUB10A_M (TSSOP, 10-Leads, Body 3x3mm, Pitch 0.5mm, IPC Low Density)
pins: 1 VA (power), 2 VOUTA (out), 3 VOUTB (out), 4 VOUTC (out), 5 VOUTD (out), 6 GND (power), 7 VREFIN (power), 8 DIN (in), 9 ~{SYNC} (in), 10 SCLK (in)

## DAC104S085CIMMX/NOPB
designator U?
10-Bit Micro Power QUAD Digital-to-Analog Converter with Rail-to-Rail Output, 10-pin Mini SOIC, Pb-Free; PartNumber: DAC104S085CIMMX/NOPB; Manufacturer: National Semiconductor; PackageTopMarking: ZXTT*X68C; PowerWise: Y; CompType: D/A Converter; Published: 1-Mar-2010; DatasheetVersion: Nov-2008; PackageVersion: revB, Jul-2003; PackageReference: MUB10A; Publisher: Altium Limited; PackageDescription: Mini-SO, Molded, .118 x .118 x .034in Body, 10 Lead, .0197in Pitch; Supplier 1: Digi-Key; Supplier Part Number 1: DAC104S085CIMMX-ND; RoHS: Y; PinCount: 10; Code_JEDEC: MO-187-BA; ComponentLink1Description: DAC104S085 Datasheet; ComponentLink1URL: http://www.national.com/ds/DA/DAC104S085.pdf; ComponentLink2Description: DAC104S085 Web Page; ComponentLink2URL: http://www.national.com/pf/DA/DAC104S085.html; ComponentLink3Description: MUB10A Package Page; ComponentLink3URL: http://www.national.com/packaging/folders/mub10a.html
footprint MUB10A_N (TSSOP, 10-Leads, Body 3x3mm, Pitch 0.5mm, IPC Medium Density)
footprint MUB10A_L (TSSOP, 10-Leads, Body 3x3mm, Pitch 0.5mm, IPC High Density)
footprint MUB10A_M (TSSOP, 10-Leads, Body 3x3mm, Pitch 0.5mm, IPC Low Density)
pins: 1 VA (power), 2 VOUTA (out), 3 VOUTB (out), 4 VOUTC (out), 5 VOUTD (out), 6 GND (power), 7 VREFIN (power), 8 DIN (in), 9 ~{SYNC} (in), 10 SCLK (in)

## DAC104S085CISD
designator U?
10-Bit Micro Power QUAD Digital-to-Analog Converter with Rail-to-Rail Output, 11-pin LLP; PartNumber: DAC104S085CISD; Manufacturer: National Semiconductor; PackageTopMarking: ZXYTT*X69C; PowerWise: Y; CompType: D/A Converter; Published: 4-Dec-2008; DatasheetVersion: Nov-2008; PackageVersion: revA, Oct-2003; PackageReference: SDA10A; Publisher: Altium Limited; PackageDescription: LLP, Plastic, Dual, 3 x 3 x 0.8mm Body, 10 Lead, 0.5mm Pitch, No Pullback; RoHS: N; PinCount: 11; ComponentLink1Description: DAC104S085 Datasheet; ComponentLink1URL: http://www.national.com/ds/DA/DAC104S085.pdf; ComponentLink2Description: DAC104S085 Web Page; ComponentLink2URL: http://www.national.com/pf/DA/DAC104S085.html; ComponentLink3Description: SDA10A Package Page; ComponentLink3URL: http://www.national.com/packaging/folders/sda10a.html
footprint SDA10A (SON, 10-Leads, Body 3x3 mm, Pitch 0.5mm, NSC Recommended)
pins: 1 VA (power), 2 VOUTA (out), 3 VOUTB (out), 4 VOUTC (out), 5 VOUTD (out), 6 GND (power), 7 VREFIN (power), 8 DIN (in), 9 ~{SYNC} (in), 10 SCLK (in), 11 DAP (power)

## DAC104S085CISD/NOPB
designator U?
10-Bit Micro Power QUAD Digital-to-Analog Converter with Rail-to-Rail Output, 10-pin LLP, Pb-Free; PartNumber: DAC104S085CISD/NOPB; Manufacturer: National Semiconductor; PackageTopMarking: ZXYTT*X69C; PowerWise: Y; CompType: D/A Converter; Published: 1-Mar-2010; DatasheetVersion: Nov-2008; PackageVersion: revA, Oct-2003; PackageReference: SDA10A; Publisher: Altium Limited; PackageDescription: LLP, Plastic, Dual, 3 x 3 x 0.8mm Body, 10 Lead, 0.5mm Pitch, No Pullback; Supplier 1: Digi-Key; Supplier Part Number 1: DAC104S085CISDTR-ND; Supplier 2: Digi-Key; Supplier Part Number 2: DAC104S085CISDCT-ND; Supplier 3: Digi-Key; Supplier Part Number 3: DAC104S085CISDDKR-ND; RoHS: Y; PinCount: 10; ComponentLink1Description: DAC104S085 Datasheet; ComponentLink1URL: http://www.national.com/ds/DA/DAC104S085.pdf; ComponentLink2Description: DAC104S085 Web Page; ComponentLink2URL: http://www.national.com/pf/DA/DAC104S085.html; ComponentLink3Description: SDA10A Package Page; ComponentLink3URL: http://www.national.com/packaging/folders/sda10a.html
footprint SDA10A (SON, 10-Leads, Body 3x3 mm, Pitch 0.5mm, NSC Recommended)
pins: 1 VA (power), 2 VOUTA (out), 3 VOUTB (out), 4 VOUTC (out), 5 VOUTD (out), 6 GND (power), 7 VREFIN (power), 8 DIN (in), 9 ~{SYNC} (in), 10 SCLK (in), 11 DAP (power)

## DAC104S085CISDX
designator U?
10-Bit Micro Power QUAD Digital-to-Analog Converter with Rail-to-Rail Output, 10-pin LLP; PartNumber: DAC104S085CISDX; Manufacturer: National Semiconductor; PackageTopMarking: ZXYTT*X69C; PowerWise: Y; CompType: D/A Converter; Published: 1-Mar-2010; DatasheetVersion: Nov-2008; PackageVersion: revA, Oct-2003; PackageReference: SDA10A; Publisher: Altium Limited; PackageDescription: LLP, Plastic, Dual, 3 x 3 x 0.8mm Body, 10 Lead, 0.5mm Pitch, No Pullback; RoHS: N; PinCount: 10; ComponentLink1Description: DAC104S085 Datasheet; ComponentLink1URL: http://www.national.com/ds/DA/DAC104S085.pdf; ComponentLink2Description: DAC104S085 Web Page; ComponentLink2URL: http://www.national.com/pf/DA/DAC104S085.html; ComponentLink3Description: SDA10A Package Page; ComponentLink3URL: http://www.national.com/packaging/folders/sda10a.html
footprint SDA10A (SON, 10-Leads, Body 3x3 mm, Pitch 0.5mm, NSC Recommended)
pins: 1 VA (power), 2 VOUTA (out), 3 VOUTB (out), 4 VOUTC (out), 5 VOUTD (out), 6 GND (power), 7 VREFIN (power), 8 DIN (in), 9 ~{SYNC} (in), 10 SCLK (in), 11 DAP (power)